# Altium footprint library Custom Connector.PcbLib: 1 footprints
Each footprint in its own frame and in the unit in brackets; x right, y up, seen from the top. Pads: shape width x height; smd on the part's side, far side on the other; paste and mask are expansions set on the pad; w line width, h text height; cw(c..) or ccw(c..) is an arc to the next point about the centre after c.
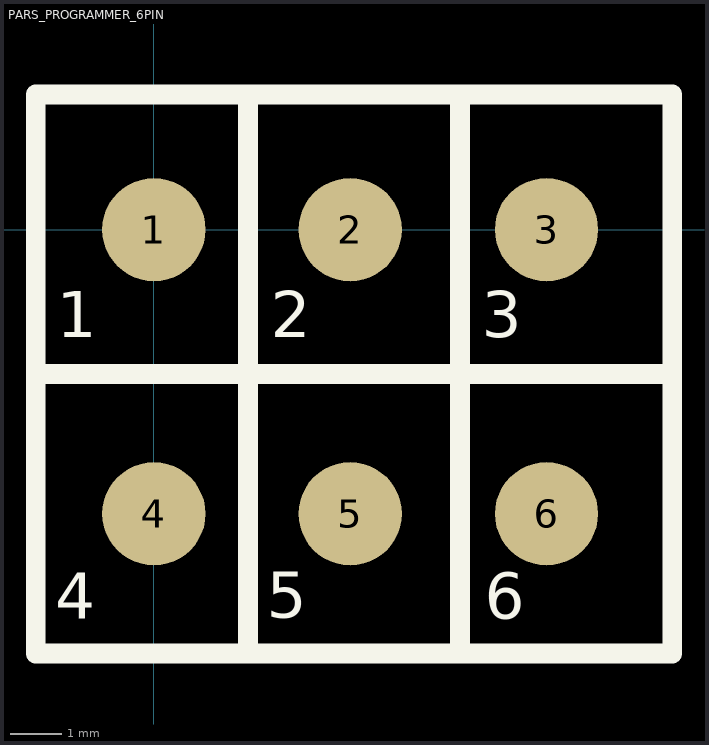
[diagram p0: the footprint, top view; thin cyan lines are the x and y axes]

## PARS_PROGRAMMER_6PIN [mm]
pads (6):
  round 2 smd: 1(0,0) 2(3.8,0) 3(7.6,0) 4(0,-5.5) 5(3.8,-5.5) 6(7.6,-5.5)
Top Overlay:
  lines w0.381: -2.286,-2.794 10.033,-2.794 ; 1.82,-8.153 1.82,2.54 ; 5.927,-8.153 5.927,2.565 ; -2.286,-8.204 10.033,-8.204 10.033,2.616 -2.286,2.616 -2.286,-8.204
  text "1" at -1.88,-2.371 h1.52
  text "4" at -1.905,-7.819 h1.52
  text "2" at 2.259,-2.371 h1.52
  text "5" at 2.184,-7.806 h1.52
  text "6" at 6.401,-7.823 h1.52
  text "3" at 6.35,-2.371 h1.52